# EAGLE library part MCP3208 (library ElectricNoodleBox)
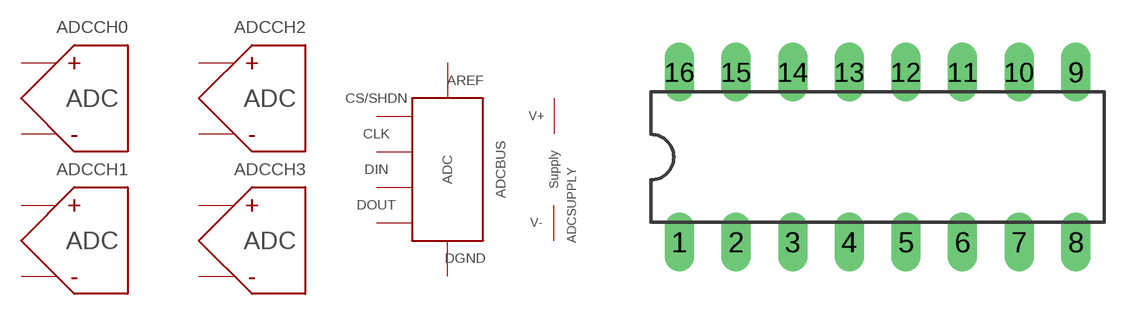
[diagram p28: symbol with the pads of DIL16; footprint DIL16]

Designator prefix ADC; gates CH0=ADCDUAL CH1=ADCDUAL CH2=ADCDUAL CH3=ADCDUAL BUS=MCP3208_CORE SUPPLY=SUPPLYPINS

## MCP3208  [DIL16]
1  CH0:IN+  in
2  CH0:IN-
3  CH1:IN+  in
4  CH1:IN-
5  CH2:IN+  in
6  CH2:IN-
7  CH3:IN+  in
8  CH3:IN-
9  BUS:DGND  in
10  BUS:CS/SHDN  in
11  BUS:DIN  in
12  BUS:DOUT  out
13  BUS:CLK  in
14  SUPPLY:V-
15  BUS:AREF  in
16  SUPPLY:V+

## Footprint DIL16 (pad centres in mm)
Dual In Line Package
drill 0.813 long: 1 -8.89,-3.81; 2 -6.35,-3.81; 3 -3.81,-3.81; 4 -1.27,-3.81; 5 1.27,-3.81; 6 3.81,-3.81; 7 6.35,-3.81; 8 8.89,-3.81; 9 8.89,3.81; 10 6.35,3.81; 11 3.81,3.81; 12 1.27,3.81; 13 -1.27,3.81; 14 -3.81,3.81; 15 -6.35,3.81; 16 -8.89,3.81